# EAGLE library part ESP32-MEZZA (library JLB6_Processor)
Module ESP32 40mm 2x15x2.0mm vertical, horizontal, normal, reverse
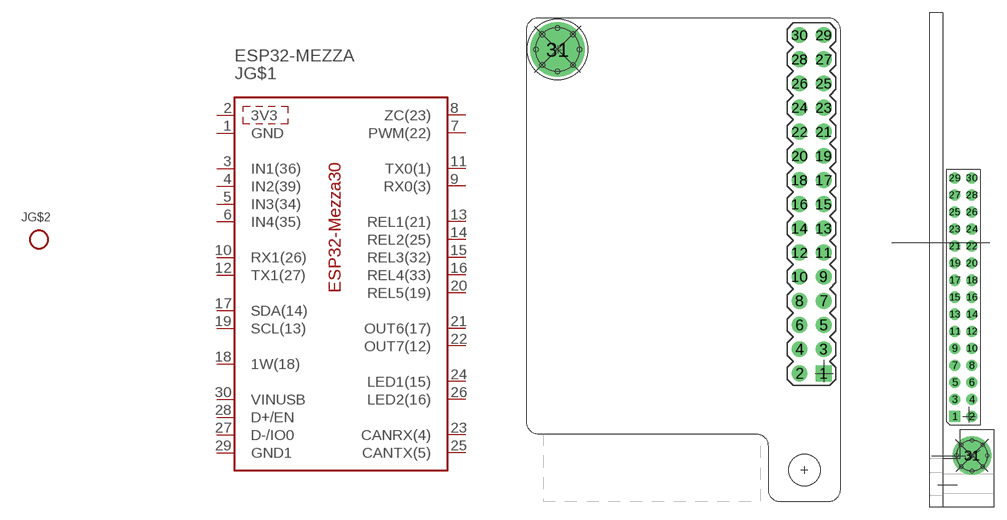
[diagram p39: symbol with the pads of ESP32-MEZZA25; footprints ESP32-MEZZA25, ESP32-MEZZA25-V]

Designator prefix J; gates G$2=VISGND G$1=ESP32-MEZZA30

## ESP32-MEZZAH  [ESP32-MEZZA25]
1  G$1:GND  pwr
2  G$1:3V3
3  G$1:IN1(36)
4  G$1:IN2(39)
5  G$1:IN3(34)
6  G$1:IN4(35)
7  G$1:PWM(22)
8  G$1:ZC(23)
9  G$1:RX0(3)
10  G$1:RX1(26)
11  G$1:TX0(1)
12  G$1:TX1(27)
13  G$1:REL1(21)
14  G$1:REL2(25)
15  G$1:REL3(32)
16  G$1:REL4(33)
17  G$1:SDA(14)
18  G$1:1W(18)
19  G$1:SCL(13)
20  G$1:REL5(19)
21  G$1:OUT6(17)
22  G$1:OUT7(12)
23  G$1:CANRX(4)
24  G$1:LED1(15)
25  G$1:CANTX(5)
26  G$1:LED2(16)
27  G$1:D-/IO0
28  G$1:D+/EN
29  G$1:GND1  pwr
30  G$1:VINUSB
31  G$2:P$1  pas

## ESP32-MEZZAV  [ESP32-MEZZA25-V]
Pads as for ESP32-MEZZA25

## ESP32-MEZZAVR  [ESP32-MEZZA25-VR]
Pads as for ESP32-MEZZA25

## ESP32-MEZZAVR1  [ESP32-MEZZA25-VR1]
Pads as for ESP32-MEZZA25

## ESP32-MEZZAR  [ESP32-MEZZA25-R]
Pads as for ESP32-MEZZA25

## Footprint ESP32-MEZZA25 (pad centres in mm)
drill 0.8 square: 1 24.6,10.6
drill 0.8: 2 22.6,10.6; 3 24.6,12.6; 4 22.6,12.6; 5 24.6,14.6; 6 22.6,14.6; 7 24.6,16.6; 8 22.6,16.6; 9 24.6,18.6; 10 22.6,18.6; 11 24.6,20.6; 12 22.6,20.6; 13 24.6,22.6; 14 22.6,22.6; 15 24.6,24.6; 16 22.6,24.6; 17 24.6,26.6; 18 22.6,26.6; 19 24.6,28.6; 20 22.6,28.6; 21 24.6,30.6; 22 22.6,30.6; 23 24.6,32.6; 24 22.6,32.6; 25 24.6,34.6; 26 22.6,34.6; 27 24.6,36.6; 28 22.6,36.6; 29 24.6,38.6; 30 22.6,38.6
drill 2.6 pad 4.5: 31 2.6,37.4
hole 0.381 at 3.87,38.67
hole 0.381 at 1.335,36.131
hole 0.381 at 2.6,39.2
hole 0.381 at 1.33,38.67
hole 0.381 at 0.8,37.4
hole 0.381 at 2.6,35.6
hole 0.381 at 3.866,36.125
hole 0.381 at 4.4,37.4
hole 2.6 at 23,2.6

## Footprint ESP32-MEZZA25-V (pad centres in mm)
drill 0.8 square: 1 3,10.6
drill 0.8: 2 5,10.6; 3 3,12.6; 4 5,12.6; 5 3,14.6; 6 5,14.6; 7 3,16.6; 8 5,16.6; 9 3,18.6; 10 5,18.6; 11 3,20.6; 12 5,20.6; 13 3,22.6; 14 5,22.6; 15 3,24.6; 16 5,24.6; 17 3,26.6; 18 5,26.6; 19 3,28.6; 20 5,28.6; 21 3,30.6; 22 5,30.6; 23 3,32.6; 24 5,32.6; 25 3,34.6; 26 5,34.6; 27 3,36.6; 28 5,36.6; 29 3,38.6; 30 5,38.6
drill 2.6 pad 4.5: 31 5,6
hole 0.381 at 6.27,7.27
hole 0.381 at 3.735,4.731
hole 0.381 at 5,7.8
hole 0.381 at 3.73,7.27
hole 0.381 at 3.2,6
hole 0.381 at 5,4.2
hole 0.381 at 6.266,4.725
hole 0.381 at 6.8,6

## Footprint ESP32-MEZZA25-VR (pad centres in mm)
drill 0.8 square: 1 -1.3,10.6
drill 0.8: 2 -3.3,10.6; 3 -1.3,12.6; 4 -3.3,12.6; 5 -1.3,14.6; 6 -3.3,14.6; 7 -1.3,16.6; 8 -3.3,16.6; 9 -1.3,18.6; 10 -3.3,18.6; 11 -1.3,20.6; 12 -3.3,20.6; 13 -1.3,22.6; 14 -3.3,22.6; 15 -1.3,24.6; 16 -3.3,24.6; 17 -1.3,26.6; 18 -3.3,26.6; 19 -1.3,28.6; 20 -3.3,28.6; 21 -1.3,30.6; 22 -3.3,30.6; 23 -1.3,32.6; 24 -3.3,32.6; 25 -1.3,34.6; 26 -3.3,34.6; 27 -1.3,36.6; 28 -3.3,36.6; 29 -1.3,38.6; 30 -3.3,38.6
drill 2.6 pad 4.5: 31 5,6
hole 0.381 at 6.27,7.27
hole 0.381 at 3.735,4.731
hole 0.381 at 5,7.8
hole 0.381 at 3.73,7.27
hole 0.381 at 3.2,6
hole 0.381 at 5,4.2
hole 0.381 at 6.266,4.725
hole 0.381 at 6.8,6

## Footprint ESP32-MEZZA25-VR1 (pad centres in mm)
drill 0.8 square: 1 0,0
drill 0.8: 2 -2,0; 3 0,2; 4 -2,2; 5 0,4; 6 -2,4; 7 0,6; 8 -2,6; 9 0,8; 10 -2,8; 11 0,10; 12 -2,10; 13 0,12; 14 -2,12; 15 0,14; 16 -2,14; 17 0,16; 18 -2,16; 19 0,18; 20 -2,18; 21 0,20; 22 -2,20; 23 0,22; 24 -2,22; 25 0,24; 26 -2,24; 27 0,26; 28 -2,26; 29 0,28; 30 -2,28
drill 2.6 pad 4.5: 31 -2.2,-4.5
hole 0.381 at -0.93,-3.23
hole 0.381 at -3.465,-5.769
hole 0.381 at -2.2,-2.7
hole 0.381 at -3.47,-3.23
hole 0.381 at -4,-4.5
hole 0.381 at -2.2,-6.3
hole 0.381 at -0.934,-5.775
hole 0.381 at -0.4,-4.5

## Footprint ESP32-MEZZA25-R (pad centres in mm)
Carte cpu esp32 UE 26x40mm 2x15x2.0mm
drill 0.8 square: 1 1.4,10.6
drill 0.8: 2 3.4,10.6; 3 1.4,12.6; 4 3.4,12.6; 5 1.4,14.6; 6 3.4,14.6; 7 1.4,16.6; 8 3.4,16.6; 9 1.4,18.6; 10 3.4,18.6; 11 1.4,20.6; 12 3.4,20.6; 13 1.4,22.6; 14 3.4,22.6; 15 1.4,24.6; 16 3.4,24.6; 17 1.4,26.6; 18 3.4,26.6; 19 1.4,28.6; 20 3.4,28.6; 21 1.4,30.6; 22 3.4,30.6; 23 1.4,32.6; 24 3.4,32.6; 25 1.4,34.6; 26 3.4,34.6; 27 1.4,36.6; 28 3.4,36.6; 29 1.4,38.6; 30 3.4,38.6
drill 2.6 pad 4.5: 31 23.4,37.4
hole 0.381 at 22.13,38.67
hole 0.381 at 24.665,36.131
hole 0.381 at 23.4,39.2
hole 0.381 at 24.67,38.67
hole 0.381 at 25.2,37.4
hole 0.381 at 23.4,35.6
hole 0.381 at 22.134,36.125
hole 0.381 at 21.6,37.4
hole 2.6 at 3,2.6